# Altium schematic symbol library AH316M245001-T.SchLib: 1 symbol
Pins are listed as number, name and electrical type; pins without a type are passive.

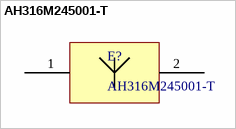
[diagram p0: symbol AH316M245001-T]

## AH316M245001-T
designator E?
2.4 GHz Antenna
footprint AH316M245001-T
pins: 1, 2